# Altium footprint library DIP.PcbLib: 17 footprints (part 1 of 2)
Each footprint in its own frame and in the unit in brackets; x right, y up, seen from the top. Pads: shape width x height; smd on the part's side, far side on the other; paste and mask are expansions set on the pad; w line width, h text height; cw(c..) or ccw(c..) is an arc to the next point about the centre after c.
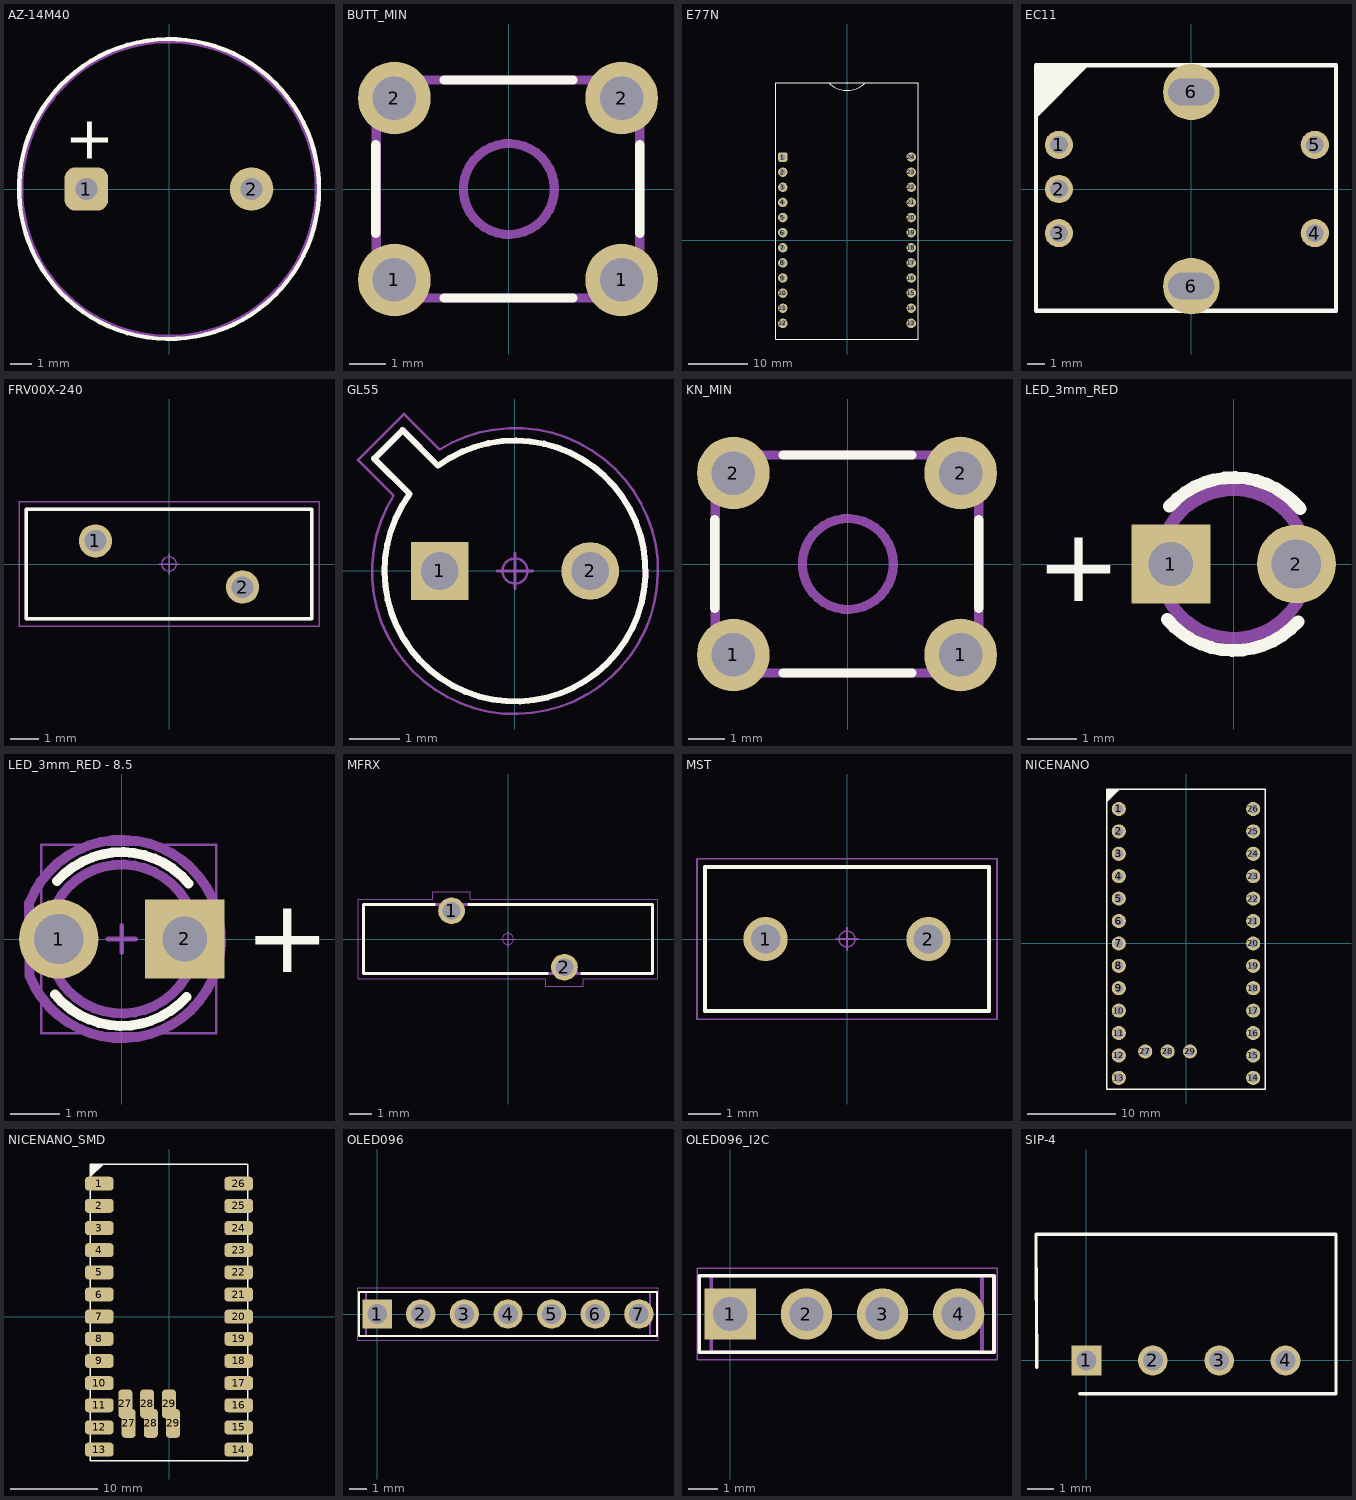
[diagram p0: the footprints below, top view; thin cyan lines are the x and y axes]

## AZ-14M40 [mm]
pads (2):
  rrect50% 2x2 hole 1: 1(-3.8,0)
  round 2 hole 1: 2(3.8,0)
Top Overlay:
  circle w0.2: c0,0 r6.9
  text "+" at -4.8,3.1 h2
Top Assembly:
  circle w0.2: c0,0 r6.8
  text "BUZZER" at -2.25,-2.5 h0.9
  text "+" at -6.225,0.475 h0.9
3D body "BUZZER.STEP": height 6.9, standoff -6.7, extent -6.891,-6.899 6.886,6.901

## BUTT_MIN [mm]
pads (4):
  round 2 hole 1.2 mask+0.05: 1(-3.15,-2.5) 1(3.1,-2.5) 2(-3.15,2.5) 2(3.1,2.5)
Top Overlay:
  lines w0.254: -3.66,-1.22 -3.66,1.22 ; -1.78,-3 1.76,-3 ; -1.78,3 1.76,3 ; 3.6,-1.22 3.6,1.22
Top Assembly:
  circle w0.254: c0,0 r1.25
  lines w0.254: -3.65,-3 -3.65,3 3.6,3 3.6,-3 -3.65,-3
3D body "User Library-SWT-2.STEP": height 7.01, standoff -3.49, extent -3.95,-3.1 3.95,3.1

## E77N [mm] "E77-MBL clone"
pads (24):
  rrect50% 1.6x1.6 hole 0.9: 1(-10.795,13.97)
  round 1.6 hole 0.9: 2(-10.795,11.43) 3(-10.795,8.89) 4(-10.795,6.35) 5(-10.795,3.81) 6(-10.795,1.27) 7(-10.795,-1.27) 8(-10.795,-3.81) 9(-10.795,-6.35) 10(-10.795,-8.89) 11(-10.795,-11.43) 12(-10.795,-13.97) 13(10.795,-13.97) 14(10.795,-11.43) 15(10.795,-8.89) 16(10.795,-6.35) 17(10.795,-3.81) 18(10.795,-1.27) 19(10.795,1.27) 20(10.795,3.81) 21(10.795,6.35) 22(10.795,8.89) 23(10.795,11.43) 24(10.795,13.97)
Top Overlay:
  lines w0.15: -3.05,26.45 ccw(c0,29.5) 3.05,26.45 ; -12,-16.6 12,-16.6 12,26.5 -12,26.5 -12,-16.6
3D body "E77N.step": height 3.7, standoff -8.54, extent -12.13,-17.85 12,36.055

## EC11 [mm] "ALPS rotary encoder"
pads (7):
  round 1.6 hole 1: 1(-7.5,2.5) 2(-7.5,0) 3(-7.5,-2.5) 4(7,-2.5) 5(7,2.5)
  round 3.2 hole 1.5 slot 2.6 at 0 deg: 6(0,-5.5) 6(0,5.5)
Top Overlay:
  region: -8.8,4 -5.8,7 -8.8,7
  lines w0.254: -8.8,-6.9 8.2,-6.9 8.2,7 -8.8,7 -8.8,-6.9
3D body "EC11 Rotary Encoder Dode Switch-15mm .STEP": height 19.5, standoff -3.65, extent -7.725,-5.856 7.225,5.857

## FRV00X-240 [mm] "Fuse, Radial (Disk with Offset Leads); 5.10 mm C X 0.50 mm W 9.90 mm L X 3.80 mm T X 12.50 mm H body"
height 12.5
pads (2):
  round 1.15 hole 0.75 paste-2539.97: 1(-2.55,0.8) 2(2.55,-0.8)
Top Overlay:
  lines w0.12: -4.95,-1.9 -4.95,1.9 4.95,1.9 4.95,-1.9 -4.95,-1.9
Mechanical 11:
  lines w0.12: -4.95,-1.9 -4.95,1.9 4.95,1.9 4.95,-1.9 -4.95,-1.9
Mechanical 12:
  circle w0.025: c-2.55,0.8 r0.275
  circle w0.025: c2.55,-0.8 r0.275
  lines w0.025: -4.95,-1.9 -4.95,1.9 4.95,1.9 4.95,-1.9 -4.95,-1.9
Mechanical 15:
  circle w0.05: c0,0 r0.25
  lines w0.05: -0.35,0 0.35,0 ; 0,-0.35 0,0.35 ; -5.2,-2.15 5.2,-2.15 5.2,2.15 -5.2,2.15 -5.2,-2.15
Mechanical 16:
  text ".Designator" at 0,0 h1.2
3D body "FRV00X-240.STEP": height 12.5, standoff -2, extent -4.95,-1.9 4.95,1.9

## GL55 [mm] "TO Cylindrical Style, 1.50 mm pitch; 2 pin, 5.20 mm W X 2.30 mm H body"
height 2.3
pads (2):
  rect 1.15x1.15 / inner round 1.15 / far side rect 1.15x1.15 hole 0.75 paste-2539.97: 1(-1.5,0)
  round 1.15 hole 0.75 paste-2539.97: 2(1.5,0)
Top Overlay:
  lines w0.12: -2.807,2.241 -2.099,1.534 ccw(c0,0) -1.534,2.099 -2.241,2.807 -2.807,2.241
Mechanical 11:
  lines w0.12: -2.807,2.241 -2.099,1.534 ccw(c0,0) -1.534,2.099 -2.241,2.807 -2.807,2.241
Mechanical 12:
  circle w0.025: c1.5,0 r0.275
  circle w0.025: c-1.5,0 r0.275
  lines w0.025: -2.807,2.241 -2.099,1.534 ccw(c0,0) -1.534,2.099 -2.241,2.807 -2.807,2.241
Mechanical 15:
  circle w0.05: c0,0 r0.25
  lines w0.05: -0.35,0 0.35,0 ; 0,-0.35 0,0.35 ; -3.129,2.21 -2.422,1.503 ccw(c0,0) -1.503,2.422 -2.21,3.129 -3.129,2.21
Mechanical 16:
  text ".Designator" at 0,0 h1.2
3D body "TO150P520H230-2.STEP": height 2.3, standoff -2, extent -2.816,-2.6 2.6,2.816

## KN_MIN [mm]
pads (4):
  round 2 hole 1.2 mask+0.05: 1(-3.15,-2.5) 1(3.1,-2.5) 2(-3.15,2.5) 2(3.1,2.5)
Top Overlay:
  lines w0.254: -3.66,-1.22 -3.66,1.22 ; -1.78,-3 1.76,-3 ; -1.78,3 1.76,3 ; 3.6,-1.22 3.6,1.22
Top Assembly:
  circle w0.254: c0,0 r1.25
  lines w0.254: -3.65,-3 -3.65,3 3.6,3 3.6,-3 -3.65,-3
3D body "User Library-SWT-2.STEP": height 7.01, standoff -3.49, extent -3.95,-3.1 3.95,3.1

## LED_3mm_RED [mm]
height 1
pads (2):
  rect 1.6x1.6 hole 0.9: 1(-1.27,0)
  round 1.6 hole 1: 2(1.27,0)
Top Overlay:
  lines w0.254: -1.345,-1.12 ccw(c0,0) 1.303,-1.168 ; -1.303,1.168 cw(c0,0) 1.344,1.12
  text "+" at -4,-0.75 h1.5
Bottom Component Outline:
  lines w0.254: -1.026,1.095 ccw(c0,0) -0.937,1.171
3D body "CircuitWorks-LED DIP 3MM.step": height 5.75, standoff -2.75, extent -1.9,-1.9 1.6,1.9

## LED_3mm_RED - 8.5 [mm]
pads (2):
  round 1.6 hole 1: 1(-1.27,0)
  rect 1.6x1.6 hole 0.9: 2(1.27,0)
Top Overlay:
  lines w0.2: -1.345,-1.12 ccw(c0,0) 1.303,-1.168 ; -1.303,1.168 cw(c0,0) 1.344,1.12
  text "+" at 2.475,-0.675 h1.5
Top Component Center:
  lines w0.1: -0.275,0 0.275,0 ; 0,-0.275 0,0.275
Top Component Outline:
  lines w0.05: -1.625,-1.9 1.9,-1.9 1.9,1.9 -1.625,1.9 -1.625,-1.9
Top Assembly:
  circle w0.2: c0,0 r1.5
  lines w0.2: -1.865,0.722 cw(c0,0) -1.856,-0.746 -1.865,0.722
Top Designator:
  text ".Designator" at -2.435,-0.25 h1.3
Top Value:
  text ".Comment" at -2.213,-0.335 h1.3
3D body "Led_3mm_R.STEP": height 13.5, standoff -2, extent -1.616,-1.889 1.888,1.889

## MFRX [mm] "Fuse, Radial (Disk with Offset Leads); 5.08 mm C X 0.50 mm W 13.00 mm L X 3.10 mm T X 18.00 mm H body"
height 18
pads (2):
  round 1.2 hole 0.8 paste-2539.97: 1(-2.54,1.27) 2(2.54,-1.27)
Top Overlay:
  lines w0.12: -3.32,1.55 -6.5,1.55 -6.5,-1.55 1.76,-1.55 ; -1.76,1.55 6.5,1.55 6.5,-1.55 3.32,-1.55
Mechanical 11:
  lines w0.12: -6.5,-1.55 -6.5,1.55 6.5,1.55 6.5,-1.55 -6.5,-1.55
Mechanical 12:
  circle w0.025: c-2.54,1.27 r0.3
  circle w0.025: c2.54,-1.27 r0.3
  lines w0.025: -6.5,-1.55 -6.5,1.55 6.5,1.55 6.5,-1.55 -6.5,-1.55
Mechanical 15:
  circle w0.05: c0,0 r0.25
  lines w0.05: -0.35,0 0.35,0 ; 0,-0.35 0,0.35 ; -6.75,-1.8 1.69,-1.8 1.69,-2.12 3.39,-2.12 3.39,-1.8 6.75,-1.8 6.75,1.8 -1.69,1.8 -1.69,2.12 -3.39,2.12 -3.39,1.8 -6.75,1.8 -6.75,-1.8
Mechanical 16:
  text ".Designator" at 0,0 h1.2
3D body "MFRX.STEP": height 17, standoff -3, extent -6.5,-1.57 6.5,1.57

## MST [mm] "Fuse, Radial (Molded); 5.08 mm C X 0.62 mm W 8.85 mm L X 4.50 mm T X 7.90 mm H body"
height 7.9
pads (2):
  round 1.38 hole 0.92 paste-2539.97: 1(-2.54,0) 2(2.54,0)
Top Overlay:
  lines w0.12: -4.43,-2.25 -4.43,2.25 4.43,2.25 4.43,-2.25 -4.43,-2.25
Mechanical 11:
  lines w0.12: -4.43,-2.25 -4.43,2.25 4.43,2.25 4.43,-2.25 -4.43,-2.25
Mechanical 12:
  circle w0.025: c-2.54,0 r0.36
  circle w0.025: c2.54,0 r0.36
  lines w0.025: -4.425,-2.25 -4.425,2.25 4.425,2.25 4.425,-2.25 -4.425,-2.25
Mechanical 15:
  circle w0.05: c0,0 r0.25
  lines w0.05: -0.35,0 0.35,0 ; 0,-0.35 0,0.35 ; -4.68,-2.5 4.68,-2.5 4.68,2.5 -4.68,2.5 -4.68,-2.5
Mechanical 16:
  text ".Designator" at 0,0 h1.2
3D body "MST.STEP": height 7.9, standoff -2, extent -4.425,-2.25 4.425,2.25

## NICENANO [mm]
pads (29):
  round 1.6 hole 1: 1(-7.62,15.24) 2(-7.62,12.7) 3(-7.62,10.16) 4(-7.62,7.62) 5(-7.62,5.08) 6(-7.62,2.54) 7(-7.62,0) 8(-7.62,-2.54) 9(-7.62,-5.08) 10(-7.62,-7.62) 11(-7.62,-10.16) 12(-7.62,-12.7) 13(-7.62,-15.24) 14(7.62,-15.24) 15(7.62,-12.7) 16(7.62,-10.16) 17(7.62,-7.62) 18(7.62,-5.08) 19(7.62,-2.54) 20(7.62,0) 21(7.62,2.54) 22(7.62,5.08) 23(7.62,7.62) 24(7.62,10.16) 25(7.62,12.7) 26(7.62,15.24) 27(-4.62,-12.24) 28(-2.08,-12.24) 29(0.46,-12.24)
Top Overlay:
  region: -9,17.5 -9,16 -7.5,17.5
  lines w0.15: -9,-16.5 -9,17.5 9,17.5 9,-16.5 -9,-16.5
3D body "nice!nano v2.step": height 2.5, standoff -0.78, extent -8.9,-16.6 8.9,17.557

## NICENANO_SMD [mm]
pads (32):
  rrect50% 3.3x1.6 smd: 1(-8,15.24) 2(-8,12.7) 3(-8,10.16) 4(-8,7.62) 5(-8,5.08) 6(-8,2.54) 7(-8,0) 8(-8,-2.54) 9(-8,-5.08) 10(-8,-7.62) 11(-8,-10.16) 12(-8,-12.7) 13(-8,-15.24) 14(8,-15.24) 15(8,-12.7) 16(8,-10.16) 17(8,-7.62) 18(8,-5.08) 19(8,-2.54) 20(8,0) 21(8,2.54) 22(8,5.08) 23(8,7.62) 24(8,10.16) 25(8,12.7) 26(8,15.24)
  rrect50% 1.6x3.3 smd: 27(-5,-10) 27(-4.62,-12.24) 28(-2.5,-10) 28(-2.08,-12.24) 29(0,-10) 29(0.46,-12.24)
Top Overlay:
  region: -9,17.5 -9,16 -7.5,17.5
  lines w0.15: -9,-16.5 9,-16.5 9,17.5 -9,17.5 -9,-16.5
3D body "nice!nano v2.step": height 2.5, standoff -0.78, extent -8.9,-16.727 8.9,17.43

## OLED096 [mm] "Header, Vertical, 2.54 mm pitch; 0.70 mm lead width, 7 pins, 1 row, 7 pins per row, 16.51 mm L X 2.54 mm W X 7.54 mm H body"
height 7.54
pads (7):
  rect 1.71x1.71 hole 1.14 paste-2539.97: 1(0,0)
  round 1.71 hole 1.14 paste-2539.97: 2(2.54,0) 3(5.08,0) 4(7.62,0) 5(10.16,0) 6(12.7,0) 7(15.24,0)
Top Overlay:
  lines w0.12: -1.04,-1.27 -1.04,1.27 16.28,1.27 16.28,-1.27 -1.04,-1.27
Mechanical 11:
  lines w0.12: -0.64,-1.27 -0.64,1.27 15.88,1.27 15.88,-1.27 -0.64,-1.27
Mechanical 12:
  lines w0.025: -0.635,-1.27 -0.635,1.27 15.875,1.27 15.875,-1.27 -0.635,-1.27 ; -0.35,-0.35 -0.35,0.35 0.35,0.35 0.35,-0.35 -0.35,-0.35 ; 2.19,-0.35 2.19,0.35 2.89,0.35 2.89,-0.35 2.19,-0.35 ; 4.73,-0.35 4.73,0.35 5.43,0.35 5.43,-0.35 4.73,-0.35 ; 7.27,-0.35 7.27,0.35 7.97,0.35 7.97,-0.35 7.27,-0.35 ; 9.81,-0.35 9.81,0.35 10.51,0.35 10.51,-0.35 9.81,-0.35 ; 12.35,-0.35 12.35,0.35 13.05,0.35 13.05,-0.35 12.35,-0.35 ; 14.89,-0.35 14.89,0.35 15.59,0.35 15.59,-0.35 14.89,-0.35
Mechanical 15:
  circle w0.05: c0,0 r0.25
  lines w0.05: -0.35,0 0.35,0 ; 0,-0.35 0,0.35 ; -1.11,-1.52 -1.11,1.52 16.35,1.52 16.35,-1.52 -1.11,-1.52
3D body "OLED_096_assy.stp": height 6.54, standoff -6.21, extent -4.88,-24.5 20.12,1.2

## OLED096_I2C [mm] "Header, Vertical, 2.54 mm pitch; 0.70 mm lead width, 7 pins, 1 row, 7 pins per row, 16.51 mm L X 2.54 mm W X 7.54 mm H body"
height 7.54
pads (4):
  rect 1.71x1.71 hole 1.14 paste-2539.97: 1(0,0)
  round 1.71 hole 1.14 paste-2539.97: 2(2.54,0) 3(5.08,0) 4(7.62,0)
Top Overlay:
  lines w0.12: -1.04,-1.27 -1.04,1.27 8.8,1.27 8.8,-1.27 -1.04,-1.27
Mechanical 11:
  lines w0.12: -0.64,-1.27 -0.64,1.27 8.4,1.27 8.4,-1.27 -0.64,-1.27
Mechanical 12:
  lines w0.025: -0.635,-1.27 -0.635,1.27 8.4,1.27 8.4,-1.27 -0.635,-1.27 ; -0.35,-0.35 -0.35,0.35 0.35,0.35 0.35,-0.35 -0.35,-0.35 ; 2.19,-0.35 2.19,0.35 2.89,0.35 2.89,-0.35 2.19,-0.35 ; 4.73,-0.35 4.73,0.35 5.43,0.35 5.43,-0.35 4.73,-0.35 ; 7.27,-0.35 7.27,0.35 7.97,0.35 7.97,-0.35 7.27,-0.35
Mechanical 15:
  circle w0.05: c0,0 r0.25
  lines w0.05: -0.35,0 0.35,0 ; 0,-0.35 0,0.35 ; -1.11,-1.52 -1.11,1.52 8.9,1.52 8.9,-1.52 -1.11,-1.52
3D body "0.96 OLED v3.step": height 7.08, standoff -3.92, extent -10.19,-26.7 17.81,1.3

## SIP-4 [mil]
pads (4):
  rect 45x45 hole 30: 1(0,0)
  round 45 hole 30: 2(100,0) 3(200,0) 4(300,0)
Top Overlay:
  lines w5: -75,-10 -76,190 376,190 376,-50 -10,-50
3D body "Converter_DCDC_muRata_CRE1xxxxxx3C_THT.step": height 303.94, standoff -157.48, extent -81.5,-49.21 372.43,190.94